# Altium schematic symbol library SiLabs Microcontroller 8-Bit 8051.SchLib: 120 symbols (part 5 of 9)
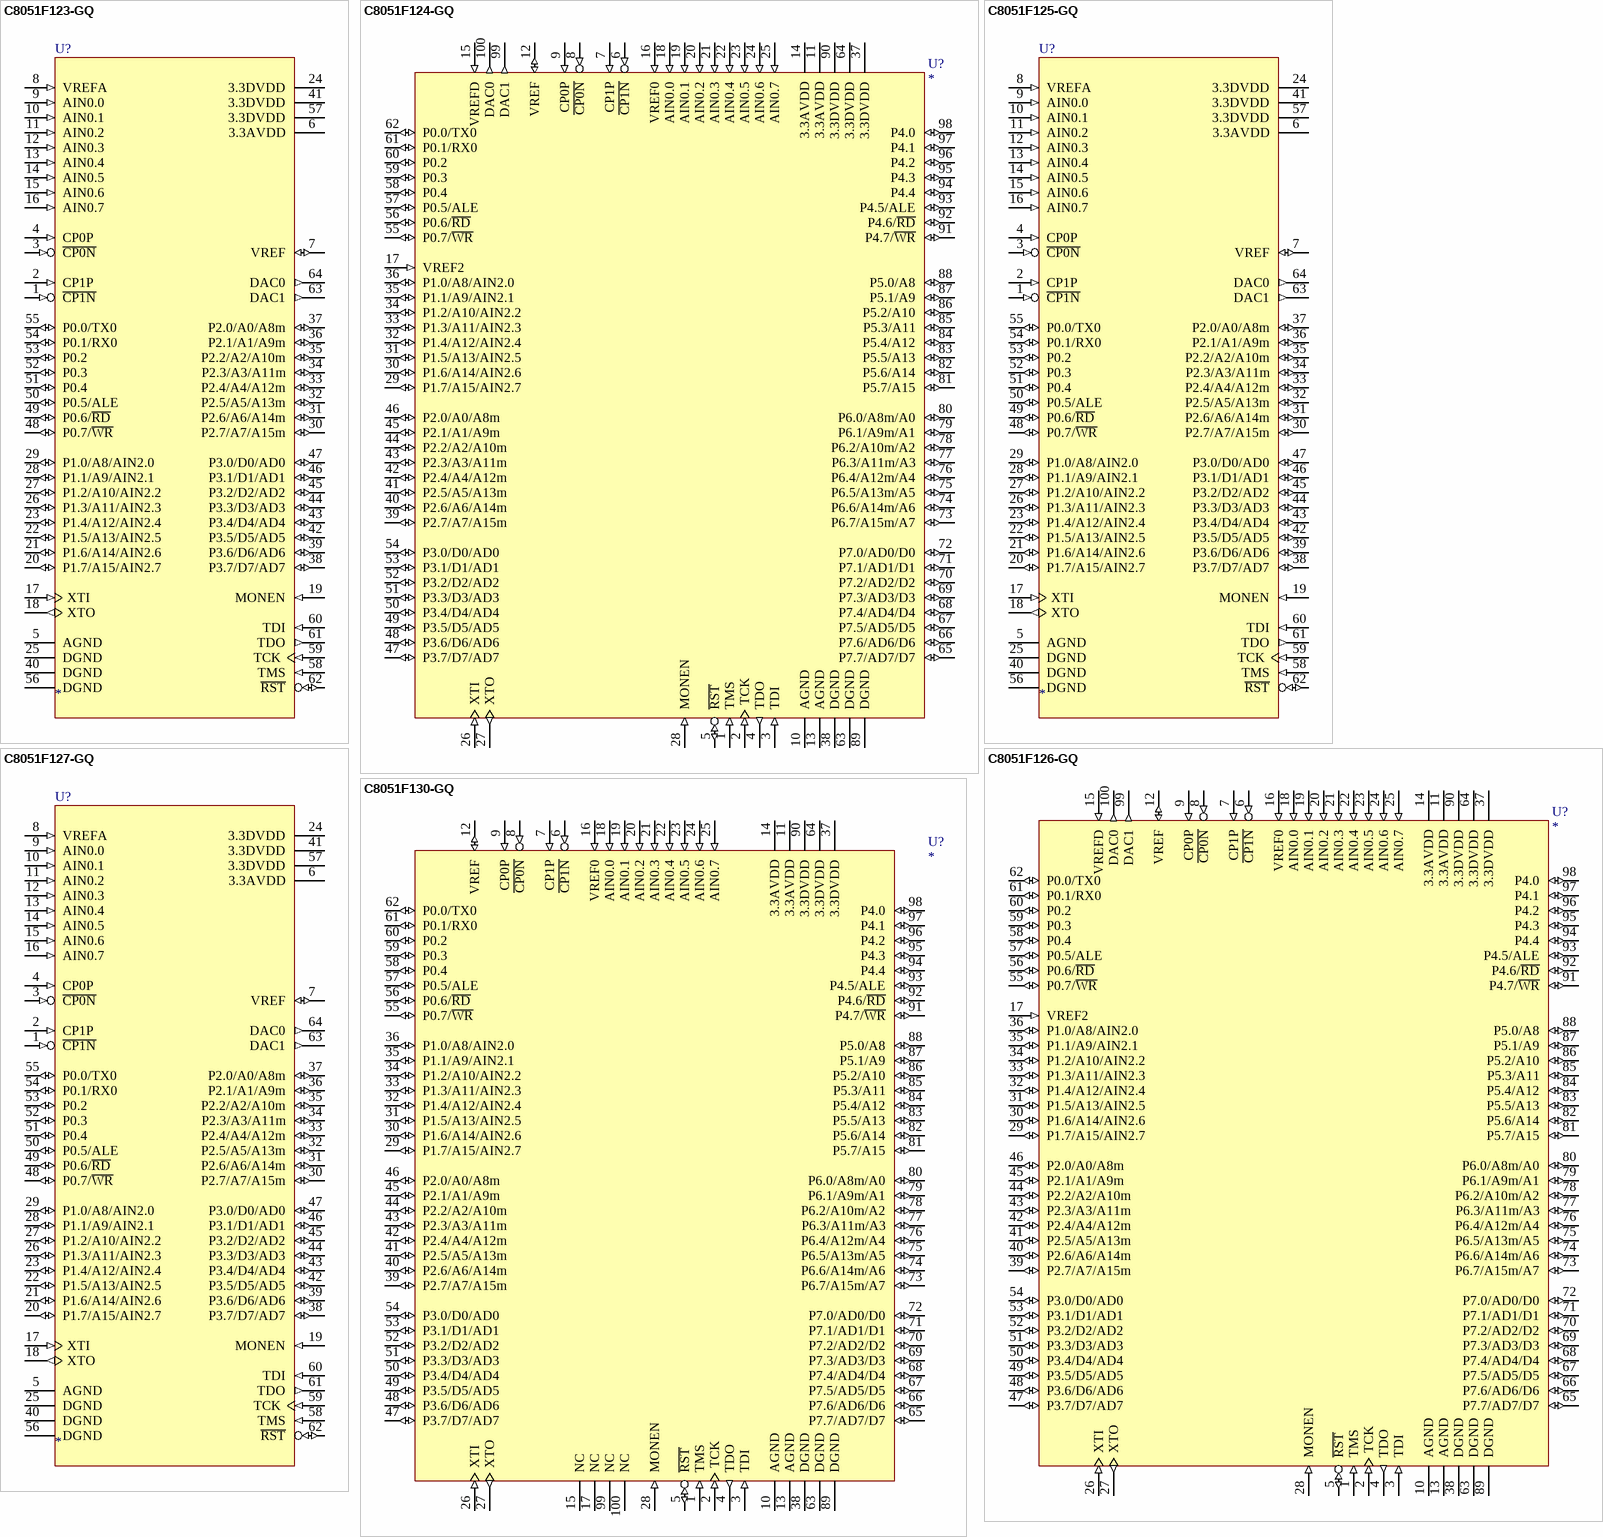
[diagram p18: symbols C8051F123-GQ to C8051F130-GQ]

## C8051F124-GQ
designator U?
8051 Microcontroller, 50MIPS, 128KiB Flash, 256Byte RAM + 8KiB XRAM, 64KiB EMIF, Internal Oscillator, 5-16bit Timer, 8CH 100ksps 12bit ADC, 8CH 500ksps 8bit ADC, 2CH 12bit DAC, 2 UART, I2C, SPI, PCA, 2 Comparator, 64GPIO.; Manufacture: Silicon Laboratories; Compliant: RoHS; CompliantInformationSource: Silicon Laboratries; PackageDocument: 2005-12; TempertureRange: Industrial (-40 to +85Cel); ComponentLink1Description: Manufacture Link; ComponentLink1URL: http://www.silabs.com/; ComponentLink2Description: Datasheet; ComponentLink2URL: https://www.silabs.com/Support Documents/TechnicalDocs/C8051F12x-13x.pdf; DatasheetDocument: Rev. 1.4, 2005-12; PackageReference: TQFP-100; Published: 2006-02-21; Publisher: A and A System Co., Ltd.; DigiKeyPartNumber: 336-1228-ND
footprint TQFP-100/e0.5 (TQFP-100; Body Width 16mm; Pitch 0.5mm)
pins: 1 TMS (in) "JTAG Test Mode Select with internal pullup.", 2 TCK (in) "JTAG Test Clock with internal pullup.", 3 TDI (in) "JTAG Test Data Input with internal pullup.TDI is latched on the rising edge of TCK.", 4 TDO (out) "JTAG Test Data Output with internal pullup. Data is shifted out on TDO on the falling edge of TCK.  TDO output is a tri-state driver.", 5 ~{RST} (io) "Device Reset. Open-drain output of internal VDD monitor. Is driven low when VDD is < VRST and  MONEN is high. An external source can initiate  a system reset by driving this pin low.", 6 ~{CP1N} (in) "Comparator 1 Inverting Input.", 7 CP1P (in) "Comparator 1 Non-Inverting Input.", 8 ~{CP0N} (in) "Comparator 0 Inverting Input.", 9 CP0P (in) "Comparator 0 Non-Inverting Input.", 10 AGND (power) "Analog Ground. Must be tied to Ground.", 11 3.3AVDD (power) "Analog Supply Voltage. Must be tied to +2.7 to +3.6 V.", 12 VREF (io) "Bandgap Voltage Reference Output (all devices). DAC Voltage Reference Input (C8051F121/3/5/7 only).", 13 AGND (power) "Analog Ground. Must be tied to Ground.", 14 3.3AVDD (power) "Analog Supply Voltage. Must be tied to +2.7 to +3.6 V.", 15 VREFD (in) "DAC Voltage Reference Input.", 16 VREF0 (in) "ADC0 Voltage Reference Input.", 17 VREF2 (in) "ADC2 Voltage Reference Input.", 18 AIN0.0 (in) "ADC0 Input Channel 0 (See ADC0 Specification for complete description).", 19 AIN0.1 (in) "ADC0 Input Channel 1 (See ADC0 Specification for complete description).", 20 AIN0.2 (in) "ADC0 Input Channel 2 (See ADC0 Specification for complete description).", 21 AIN0.3 (in) "ADC0 Input Channel 3 (See ADC0 Specification for complete description).", 22 AIN0.4 (in) "ADC0 Input Channel 4 (See ADC0 Specification for complete description).", 23 AIN0.5 (in) "ADC0 Input Channel 5 (See ADC0 Specification for complete description).", 24 AIN0.6 (in) "ADC0 Input Channel 6 (See ADC0 Specification for complete description).", 25 AIN0.7 (in) "ADC0 Input Channel 7 (See ADC0 Specification for complete description).", 26 XTI (in) "Crystal Input. This pin is the return for the internal oscillator circuit for a crystal or ceramic resonator. For a precision internal clock, connect a crystal or ceramic resonator from XTAL1 to XTAL2. If overdriven by an external CMOS clock, this become", 27 XTO (out) "Crystal Output. This pin is the excitation driver for a crystal or ceramic resonator.", 28 MONEN (in) "VDD Monitor Enable. When tied high, this pin enables the internal VDD monitor, which forces a system reset when VDD is < VRST. When tied low, the internal VDD monitor is disabled. This pin must be tied high or low.", 29 P1.7/A15/AIN2.7 (io) "Port 1.7. See Port Input/Output section for complete description.", 30 P1.6/A14/AIN2.6 (io) "Port 1.6. See Port Input/Output section for complete description.", 31 P1.5/A13/AIN2.5 (io) "Port 1.5. See Port Input/Output section for complete  !description.", 32 P1.4/A12/AIN2.4 (io) "Port 1.4. See Port Input/Output section for complete description.", 33 P1.3/A11/AIN2.3 (io) "Port 1.3. See Port Input/Output section for complete description.", 34 P1.2/A10/AIN2.2 (io) "Port 1.2. See Port Input/Output section for complete description.", 35 P1.1/A9/AIN2.1 (io) "Port 1.1. See Port Input/Output section for complete description.", 36 P1.0/A8/AIN2.0 (io) "ADC2 Input Channel 0 (See ADC2 Specification for complete description). Bit 8 External Memory Address bus (Non-multiplexed  mode)  Port 1.0 See Port Input/Output section for complete description.", 37 3.3DVDD (power) "Digital Supply Voltage. Must be tied to +2.7 to +3.6 V.", 38 DGND (power) "Digital Ground. Must be tied to Ground.", 39 P2.7/A7/A15m (io) "Port 2.7. See Port Input/Output section for complete description.", 40 P2.6/A6/A14m (io) "Port 2.6. See Port Input/Output section for complete description.", 41 P2.5/A5/A13m (io) "Port 2.5. See Port Input/Output section for complete description.", 42 P2.4/A4/A12m (io) "Port 2.4. See Port Input/Output section for complete description.", 43 P2.3/A3/A11m (io) "Port 2.3. See Port Input/Output section for complete description.", 44 P2.2/A2/A10m (io) "Port 2.2. See Port Input/Output section for complete description.", 45 P2.1/A1/A9m (io) "Port 2.1. See Port Input/Output section for complete description.", 46 P2.0/A0/A8m (io) "Port 2.0. Bit 8 External Memory Address bus (Multiplexed mode) Bit 0 External Memory Address bus (Non-multiplexed mode) See Port Input/Output section for complete description.", 47 P3.7/D7/AD7 (io) "Port 3.7. See Port Input/Output section for complete description.", 48 P3.6/D6/AD6 (io) "OPort 3.6. See Port Input/Output section for complete description.", 49 P3.5/D5/AD5 (io) "Port 3.5. See Port Input/Output section for complete description.", 50 P3.4/D4/AD4 (io) "OPort 3.4. See Port Input/Output section for complete description.", 51 P3.3/D3/AD3 (io) "OPort 3.3. See Port Input/Output section for complete description.", 52 P3.2/D2/AD2 (io) "OPort 3.2. See Port Input/Output section for complete description.", 53 P3.1/D1/AD1 (io) "OPort 3.1. See Port Input/Output section for complete description.", 54 P3.0/D0/AD0 (io) "Port 3.0. Bit 0 External Memory Address/Data bus (Multiplexed  mode)  Bit 0 External Memory Data bus (Non-multiplexed  mode) See Port Input/Output section for complete description.", 55 P0.7/~{WR} (io) "Port 0.7. WR Strobe for External Memory Address bus. See Port Input/Output section for complete description.", 56 P0.6/~{RD} (io) "Port 0.6. RD Strobe for External Memory Address bus. See Port Input/Output section for complete description.", 57 P0.5/ALE (io) "Port 0.5. ALE Strobe for External Memory Address bus (multiplexed mode) See Port Input/Output section for complete description.", 58 P0.4 (io) "Port 0.4. See Port Input/Output section for complete description.", 59 P0.3 (io) "Port 0.3. See Port Input/Output section for complete description.", 60 P0.2 (io) "Port 0.2. See Port Input/Output section for complete description.", 61 P0.1/RX0 (io) "Port 0.1. See Port Input/Output section for complete description.", 62 P0.0/TX0 (io) "Port 0.0. See Port Input/Output section for complete description.", 63 DGND (power) "Digital Ground. Must be tied to Ground.", 64 3.3DVDD (power) "Digital Supply Voltage. Must be tied to +2.7 to +3.6 V.", 65 P7.7/AD7/D7 (io) "Port 7.7. See Port Input/Output section for complete description.", 66 P7.6/AD6/D6 (io) "Port 7.6. See Port Input/Output section for complete description.", 67 P7.5/AD5/D5 (io) "Port 7.5. See Port Input/Output section for complete description.", 68 P7.4/AD4/D4 (io) "Port 7.4. See Port Input/Output section for complete description.", 69 P7.3/AD3/D3 (io) "Port 7.3. See Port Input/Output section for complete description.", 70 P7.2/AD2/D2 (io) "Port 7.2. See Port Input/Output section for complete description.", 71 P7.1/AD1/D1 (io) "Port 7.1. See Port Input/Output section for complete description.", 72 P7.0/AD0/D0 (io) "Port 7.0. Bit 0 External Memory Address/Data bus (Multiplexed mode) Bit 0 External Memory Data bus (Non-multiplexed mode) See Port Input/Output section for complete description.", 73 P6.7/A15m/A7 (io) "Port 6.7. See Port Input/Output section for complete description.", 74 P6.6/A14m/A6 (io) "Port 6.6. See Port Input/Output section for complete description.", 75 P6.5/A13m/A5 (io) "Port 6.5. See Port Input/Output section for complete description.", 76 P6.4/A12m/A4 (io) "Port 6.4. See Port Input/Output section for complete description.", 77 P6.3/A11m/A3 (io) "Port 6.3. See Port Input/Output section for complete description.", 78 P6.2/A10m/A2 (io) "Port 6.2. See Port Input/Output section for complete description.", 79 P6.1/A9m/A1 (io) "Port 6.1. See Port Input/Output section for complete description.", 80 P6.0/A8m/A0 (io) "Port6.0. Bit 8 External Memory Address bus (Multiplexed mode) Bit 0 External Memory Address bus (Non-multiplexed mode) See Port Input/Output section for complete description.", 81 P5.7/A15 (io) "Port 5.7. See Port Input/Output section for complete description.", 82 P5.6/A14 (io) "Port 5.6. See Port Input/Output section for complete description.", 83 P5.5/A13 (io) "Port 5.5. See Port Input/Output section for complete description.", 84 P5.4/A12 (io) "Port 5.4. See Port Input/Output section for complete description.", 85 P5.3/A11 (io) "Port 5.3. See Port Input/Output section for complete description.", 86 P5.2/A10 (io) "Port 5.2. See Port Input/Output section for complete description.", 87 P5.1/A9 (io) "Port 5.1. See Port Input/Output section for complete description.", 88 P5.0/A8 (io) "Port 5.0. Bit 8 External Memory Address bus (Non-multiplexed mode) See Port Input/Output section for complete description.", 89 DGND (power) "Digital Ground. Must be tied to Ground.", 90 3.3DVDD (power) "Digital Supply Voltage. Must be tied to +2.7 to +3.6 V.", 91 P4.7/~{WR} (io) "Port 4.7. WR Strobe for External Memory Address bus. See Port Input/Output section for complete description.", 92 P4.6/~{RD} (io) "P4.6. RD Strobe for External Memory Address bus. See Port Input/Output section for complete description.", 93 P4.5/ALE (io) "Port 4.5, ALE Strobe for External Memory Address bus (multiplexed mode) See Port Input/Output section for complete description.", 94 P4.4 (io) "Port 4.4. See Port Input/Output section for complete description.", 95 P4.3 (io) "Port 4.3. See Port Input/Output section for complete description.", 96 P4.2 (io) "Port 4.2. See Port Input/Output section for complete description.", 97 P4.1 (io) "Port 4.1. See Port Input/Output section for complete description.", 98 P4.0 (io) "Port 4.0. See Port Input/Output section for complete description.", 99 DAC1 (out) "Digital to Analog Converter 1 Voltage Output. (See DAC Specification for complete description).", 100 DAC0 (out) "Digital to Analog Converter 0 Voltage Output. (See DAC Specification for complete description)."

## C8051F125-GQ
designator U?
8051 Microcontroller, 50MIPS, 128KiB Flash, 256Byte RAM + 8KiB XRAM, 64KiB EMIF, Internal Oscillator, 5-16bit Timer, 8CH 100ksps 12bit ADC, 8CH 500ksps 8bit ADC, 2CH 12bit DAC, 2 UART, I2C, SPI, PCA, 2 Comparator, 32GPIO.; Manufacture: Silicon Laboratories; Compliant: RoHS; CompliantInformationSource: Silicon Laboratries; PackageDocument: 2005-12; TempertureRange: Industrial (-40 to +85Cel); ComponentLink1Description: Manufacture Link; ComponentLink1URL: http://www.silabs.com/; ComponentLink2Description: Datasheet; ComponentLink2URL: https://www.silabs.com/Support Documents/TechnicalDocs/C8051F12x-13x.pdf; DatasheetDocument: Rev. 1.4, 2005-12; PackageReference: TQFP-64; Published: 2006-02-21; Publisher: A and A System Co., Ltd.; DigiKeyPartNumber: 336-1229-ND
footprint TQFP-64/e0.5 (TQFP-64; Body Width 12mm; Pitch 0.5mm)
pins: 1 ~{CP1N} (in) "Comparator 1 Inverting Input.", 2 CP1P (in) "Comparator 1 Non-Inverting Input.", 3 ~{CP0N} (in) "Comparator 0 Inverting Input.", 4 CP0P (in) "Comparator 0 Non-Inverting Input.", 5 AGND (power) "Analog Ground. Must be tied to Ground.", 6 3.3AVDD (power) "Analog Supply Voltage. Must be tied to +2.7 to +3.6 V.", 7 VREF (io) "Bandgap Voltage Reference Output (all devices). DAC Voltage Reference Input (C8051F121/3/5/7 only).", 8 VREFA (in) "ADC0 and ADC2 Voltage Reference Input.", 9 AIN0.0 (in) "ADC0 Input Channel 0 (See ADC0 Specification for complete description).", 10 AIN0.1 (in) "ADC0 Input Channel 1 (See ADC0 Specification for complete description).", 11 AIN0.2 (in) "ADC0 Input Channel 2 (See ADC0 Specification for complete description).", 12 AIN0.3 (in) "ADC0 Input Channel 3 (See ADC0 Specification for complete description).", 13 AIN0.4 (in) "ADC0 Input Channel 4 (See ADC0 Specification for complete description).", 14 AIN0.5 (in) "ADC0 Input Channel 5 (See ADC0 Specification for complete description).", 15 AIN0.6 (in) "ADC0 Input Channel 6 (See ADC0 Specification for complete description).", 16 AIN0.7 (in) "ADC0 Input Channel 7 (See ADC0 Specification for complete description).", 17 XTI (in) "Crystal Input. This pin is the return for the internal oscillator circuit for a crystal or ceramic resonator. For a precision internal clock, connect a crystal or ceramic resonator from XTAL1 to XTAL2. If overdriven by an external CMOS clock, this become", 18 XTO (out) "Crystal Output. This pin is the excitation driver for a crystal or ceramic resonator.", 19 MONEN (in) "VDD Monitor Enable. When tied high, this pin enables the internal VDD monitor, which forces a system reset when VDD is < VRST. When tied low, the internal VDD monitor is disabled. This pin must be tied high or low.", 20 P1.7/A15/AIN2.7 (io) "Port 1.7. See Port Input/Output section for complete description.", 21 P1.6/A14/AIN2.6 (io) "Port 1.6. See Port Input/Output section for complete description.", 22 P1.5/A13/AIN2.5 (io) "Port 1.5. See Port Input/Output section for complete  !description.", 23 P1.4/A12/AIN2.4 (io) "Port 1.4. See Port Input/Output section for complete description.", 24 3.3DVDD (power) "Digital Supply Voltage. Must be tied to +2.7 to +3.6 V.", 25 DGND (power) "Digital Ground. Must be tied to Ground.", 26 P1.3/A11/AIN2.3 (io) "Port 1.3. See Port Input/Output section for complete description.", 27 P1.2/A10/AIN2.2 (io) "Port 1.2. See Port Input/Output section for complete description.", 28 P1.1/A9/AIN2.1 (io) "Port 1.1. See Port Input/Output section for complete description.", 29 P1.0/A8/AIN2.0 (io) "ADC2 Input Channel 0 (See ADC2 Specification for complete description). Bit 8 External Memory Address bus (Non-multiplexed  mode)  Port 1.0 See Port Input/Output section for complete description.", 30 P2.7/A7/A15m (io) "Port 2.7. See Port Input/Output section for complete description.", 31 P2.6/A6/A14m (io) "Port 2.6. See Port Input/Output section for complete description.", 32 P2.5/A5/A13m (io) "Port 2.5. See Port Input/Output section for complete description.", 33 P2.4/A4/A12m (io) "Port 2.4. See Port Input/Output section for complete description.", 34 P2.3/A3/A11m (io) "Port 2.3. See Port Input/Output section for complete description.", 35 P2.2/A2/A10m (io) "Port 2.2. See Port Input/Output section for complete description.", 36 P2.1/A1/A9m (io) "Port 2.1. See Port Input/Output section for complete description.", 37 P2.0/A0/A8m (io) "Port 2.0. Bit 8 External Memory Address bus (Multiplexed mode) Bit 0 External Memory Address bus (Non-multiplexed mode) See Port Input/Output section for complete description.", 38 P3.7/D7/AD7 (io) "Port 3.7. See Port Input/Output section for complete description.", 39 P3.6/D6/AD6 (io) "OPort 3.6. See Port Input/Output section for complete description.", 40 DGND (power) "Digital Ground. Must be tied to Ground.", 41 3.3DVDD (power) "Digital Supply Voltage. Must be tied to +2.7 to +3.6 V.", 42 P3.5/D5/AD5 (io) "Port 3.5. See Port Input/Output section for complete description.", 43 P3.4/D4/AD4 (io) "OPort 3.4. See Port Input/Output section for complete description.", 44 P3.3/D3/AD3 (io) "OPort 3.3. See Port Input/Output section for complete description.", 45 P3.2/D2/AD2 (io) "OPort 3.2. See Port Input/Output section for complete description.", 46 P3.1/D1/AD1 (io) "OPort 3.1. See Port Input/Output section for complete description.", 47 P3.0/D0/AD0 (io) "Port 3.0. Bit 0 External Memory Address/Data bus (Multiplexed  mode)  Bit 0 External Memory Data bus (Non-multiplexed  mode) See Port Input/Output section for complete description.", 48 P0.7/~{WR} (io) "Port 0.7, WR Strobe for External Memory Address bus. See Port Input/Output section for complete description.", 49 P0.6/~{RD} (io) "Port 0.6, RD Strobe for External Memory Address bus. See Port Input/Output section for complete description.", 50 P0.5/ALE (io) "Port 0.5. ALE Strobe for External Memory Address bus (multiplexed mode) See Port Input/Output section for complete description.", 51 P0.4 (io) "Port 0.4. See Port Input/Output section for complete description.", 52 P0.3 (io) "Port 0.3. See Port Input/Output section for complete description.", 53 P0.2 (io) "Port 0.2. See Port Input/Output section for complete description.", 54 P0.1/RX0 (io) "Port 0.1. See Port Input/Output section for complete description.", 55 P0.0/TX0 (io) "Port 0.0. See Port Input/Output section for complete description.", 56 DGND (power) "Digital Ground. Must be tied to Ground.", 57 3.3DVDD (power) "Digital Supply Voltage. Must be tied to +2.7 to +3.6 V.", 58 TMS (in) "JTAG Test Mode Select with internal pullup.", 59 TCK (in) "JTAG Test Clock with internal pullup.", 60 TDI (in) "JTAG Test Data Input with internal pullup.TDI is latched on the rising edge of TCK.", 61 TDO (out) "JTAG Test Data Output with internal pullup. Data is shifted out on TDO on the falling edge of TCK.  TDO output is a tri-state driver.", 62 ~{RST} (io) "Device Reset. Open-drain output of internal VDD monitor. Is driven low when VDD is < VRST and  MONEN is high. An external source can initiate  a system reset by driving this pin low.", 63 DAC1 (out) "Digital to Analog Converter 1 Voltage Output. (See DAC Specification for complete description).", 64 DAC0 (out) "Digital to Analog Converter 0 Voltage Output. (See DAC Specification for complete description)."

## C8051F126-GQ
designator U?
8051 Microcontroller, 50MIPS, 128KiB Flash, 256Byte RAM + 8KiB XRAM, 64KiB EMIF, Internal Oscillator, 5-16bit Timer, 8CH 100ksps 10bit ADC, 8CH 500ksps 8bit ADC, 2CH 12bit DAC, 2 UART, I2C, SPI, PCA, 2 Comparator, 64GPIO.; Manufacture: Silicon Laboratories; Compliant: RoHS; CompliantInformationSource: Silicon Laboratries; PackageDocument: 2005-12; TempertureRange: Industrial (-40 to +85Cel); ComponentLink1Description: Manufacture Link; ComponentLink1URL: http://www.silabs.com/; ComponentLink2Description: Datasheet; ComponentLink2URL: https://www.silabs.com/Support Documents/TechnicalDocs/C8051F12x-13x.pdf; DatasheetDocument: Rev. 1.4, 2005-12; PackageReference: TQFP-100; Published: 2006-02-21; Publisher: A and A System Co., Ltd.; DigiKeyPartNumber: 336-1230-ND
footprint TQFP-100/e0.5 (TQFP-100; Body Width 16mm; Pitch 0.5mm)
pins: 1 TMS (in) "JTAG Test Mode Select with internal pullup.", 2 TCK (in) "JTAG Test Clock with internal pullup.", 3 TDI (in) "JTAG Test Data Input with internal pullup.TDI is latched on the rising edge of TCK.", 4 TDO (out) "JTAG Test Data Output with internal pullup. Data is shifted out on TDO on the falling edge of TCK.  TDO output is a tri-state driver.", 5 ~{RST} (io) "Device Reset. Open-drain output of internal VDD monitor. Is driven low when VDD is < VRST and  MONEN is high. An external source can initiate  a system reset by driving this pin low.", 6 ~{CP1N} (in) "Comparator 1 Inverting Input.", 7 CP1P (in) "Comparator 1 Non-Inverting Input.", 8 ~{CP0N} (in) "Comparator 0 Inverting Input.", 9 CP0P (in) "Comparator 0 Non-Inverting Input.", 10 AGND (power) "Analog Ground. Must be tied to Ground.", 11 3.3AVDD (power) "Analog Supply Voltage. Must be tied to +2.7 to +3.6 V.", 12 VREF (io) "Bandgap Voltage Reference Output (all devices). DAC Voltage Reference Input (C8051F121/3/5/7 only).", 13 AGND (power) "Analog Ground. Must be tied to Ground.", 14 3.3AVDD (power) "Analog Supply Voltage. Must be tied to +2.7 to +3.6 V.", 15 VREFD (in) "DAC Voltage Reference Input.", 16 VREF0 (in) "ADC0 Voltage Reference Input.", 17 VREF2 (in) "ADC2 Voltage Reference Input.", 18 AIN0.0 (in) "ADC0 Input Channel 0 (See ADC0 Specification for complete description).", 19 AIN0.1 (in) "ADC0 Input Channel 1 (See ADC0 Specification for complete description).", 20 AIN0.2 (in) "ADC0 Input Channel 2 (See ADC0 Specification for complete description).", 21 AIN0.3 (in) "ADC0 Input Channel 3 (See ADC0 Specification for complete description).", 22 AIN0.4 (in) "ADC0 Input Channel 4 (See ADC0 Specification for complete description).", 23 AIN0.5 (in) "ADC0 Input Channel 5 (See ADC0 Specification for complete description).", 24 AIN0.6 (in) "ADC0 Input Channel 6 (See ADC0 Specification for complete description).", 25 AIN0.7 (in) "ADC0 Input Channel 7 (See ADC0 Specification for complete description).", 26 XTI (in) "Crystal Input. This pin is the return for the internal oscillator circuit for a crystal or ceramic resonator. For a precision internal clock, connect a crystal or ceramic resonator from XTAL1 to XTAL2. If overdriven by an external CMOS clock, this become", 27 XTO (out) "Crystal Output. This pin is the excitation driver for a crystal or ceramic resonator.", 28 MONEN (in) "VDD Monitor Enable. When tied high, this pin enables the internal VDD monitor, which forces a system reset when VDD is < VRST. When tied low, the internal VDD monitor is disabled. This pin must be tied high or low.", 29 P1.7/A15/AIN2.7 (io) "Port 1.7. See Port Input/Output section for complete description.", 30 P1.6/A14/AIN2.6 (io) "Port 1.6. See Port Input/Output section for complete description.", 31 P1.5/A13/AIN2.5 (io) "Port 1.5. See Port Input/Output section for complete  !description.", 32 P1.4/A12/AIN2.4 (io) "Port 1.4. See Port Input/Output section for complete description.", 33 P1.3/A11/AIN2.3 (io) "Port 1.3. See Port Input/Output section for complete description.", 34 P1.2/A10/AIN2.2 (io) "Port 1.2. See Port Input/Output section for complete description.", 35 P1.1/A9/AIN2.1 (io) "Port 1.1. See Port Input/Output section for complete description.", 36 P1.0/A8/AIN2.0 (io) "ADC2 Input Channel 0 (See ADC2 Specification for complete description). Bit 8 External Memory Address bus (Non-multiplexed  mode)  Port 1.0 See Port Input/Output section for complete description.", 37 3.3DVDD (power) "Digital Supply Voltage. Must be tied to +2.7 to +3.6 V.", 38 DGND (power) "Digital Ground. Must be tied to Ground.", 39 P2.7/A7/A15m (io) "Port 2.7. See Port Input/Output section for complete description.", 40 P2.6/A6/A14m (io) "Port 2.6. See Port Input/Output section for complete description.", 41 P2.5/A5/A13m (io) "Port 2.5. See Port Input/Output section for complete description.", 42 P2.4/A4/A12m (io) "Port 2.4. See Port Input/Output section for complete description.", 43 P2.3/A3/A11m (io) "Port 2.3. See Port Input/Output section for complete description.", 44 P2.2/A2/A10m (io) "Port 2.2. See Port Input/Output section for complete description.", 45 P2.1/A1/A9m (io) "Port 2.1. See Port Input/Output section for complete description.", 46 P2.0/A0/A8m (io) "Port 2.0. Bit 8 External Memory Address bus (Multiplexed mode) Bit 0 External Memory Address bus (Non-multiplexed mode) See Port Input/Output section for complete description.", 47 P3.7/D7/AD7 (io) "Port 3.7. See Port Input/Output section for complete description.", 48 P3.6/D6/AD6 (io) "OPort 3.6. See Port Input/Output section for complete description.", 49 P3.5/D5/AD5 (io) "Port 3.5. See Port Input/Output section for complete description.", 50 P3.4/D4/AD4 (io) "OPort 3.4. See Port Input/Output section for complete description.", 51 P3.3/D3/AD3 (io) "OPort 3.3. See Port Input/Output section for complete description.", 52 P3.2/D2/AD2 (io) "OPort 3.2. See Port Input/Output section for complete description.", 53 P3.1/D1/AD1 (io) "OPort 3.1. See Port Input/Output section for complete description.", 54 P3.0/D0/AD0 (io) "Port 3.0. Bit 0 External Memory Address/Data bus (Multiplexed  mode)  Bit 0 External Memory Data bus (Non-multiplexed  mode) See Port Input/Output section for complete description.", 55 P0.7/~{WR} (io) "Port 0.7. WR Strobe for External Memory Address bus. See Port Input/Output section for complete description.", 56 P0.6/~{RD} (io) "Port 0.6. RD Strobe for External Memory Address bus. See Port Input/Output section for complete description.", 57 P0.5/ALE (io) "Port 0.5. ALE Strobe for External Memory Address bus (multiplexed mode) See Port Input/Output section for complete description.", 58 P0.4 (io) "Port 0.4. See Port Input/Output section for complete description.", 59 P0.3 (io) "Port 0.3. See Port Input/Output section for complete description.", 60 P0.2 (io) "Port 0.2. See Port Input/Output section for complete description.", 61 P0.1/RX0 (io) "Port 0.1. See Port Input/Output section for complete description.", 62 P0.0/TX0 (io) "Port 0.0. See Port Input/Output section for complete description.", 63 DGND (power) "Digital Ground. Must be tied to Ground.", 64 3.3DVDD (power) "Digital Supply Voltage. Must be tied to +2.7 to +3.6 V.", 65 P7.7/AD7/D7 (io) "Port 7.7. See Port Input/Output section for complete description.", 66 P7.6/AD6/D6 (io) "Port 7.6. See Port Input/Output section for complete description.", 67 P7.5/AD5/D5 (io) "Port 7.5. See Port Input/Output section for complete description.", 68 P7.4/AD4/D4 (io) "Port 7.4. See Port Input/Output section for complete description.", 69 P7.3/AD3/D3 (io) "Port 7.3. See Port Input/Output section for complete description.", 70 P7.2/AD2/D2 (io) "Port 7.2. See Port Input/Output section for complete description.", 71 P7.1/AD1/D1 (io) "Port 7.1. See Port Input/Output section for complete description.", 72 P7.0/AD0/D0 (io) "Port 7.0. Bit 0 External Memory Address/Data bus (Multiplexed mode) Bit 0 External Memory Data bus (Non-multiplexed mode) See Port Input/Output section for complete description.", 73 P6.7/A15m/A7 (io) "Port 6.7. See Port Input/Output section for complete description.", 74 P6.6/A14m/A6 (io) "Port 6.6. See Port Input/Output section for complete description.", 75 P6.5/A13m/A5 (io) "Port 6.5. See Port Input/Output section for complete description.", 76 P6.4/A12m/A4 (io) "Port 6.4. See Port Input/Output section for complete description.", 77 P6.3/A11m/A3 (io) "Port 6.3. See Port Input/Output section for complete description.", 78 P6.2/A10m/A2 (io) "Port 6.2. See Port Input/Output section for complete description.", 79 P6.1/A9m/A1 (io) "Port 6.1. See Port Input/Output section for complete description.", 80 P6.0/A8m/A0 (io) "Port6.0. Bit 8 External Memory Address bus (Multiplexed mode) Bit 0 External Memory Address bus (Non-multiplexed mode) See Port Input/Output section for complete description.", 81 P5.7/A15 (io) "Port 5.7. See Port Input/Output section for complete description.", 82 P5.6/A14 (io) "Port 5.6. See Port Input/Output section for complete description.", 83 P5.5/A13 (io) "Port 5.5. See Port Input/Output section for complete description.", 84 P5.4/A12 (io) "Port 5.4. See Port Input/Output section for complete description.", 85 P5.3/A11 (io) "Port 5.3. See Port Input/Output section for complete description.", 86 P5.2/A10 (io) "Port 5.2. See Port Input/Output section for complete description.", 87 P5.1/A9 (io) "Port 5.1. See Port Input/Output section for complete description.", 88 P5.0/A8 (io) "Port 5.0. Bit 8 External Memory Address bus (Non-multiplexed mode) See Port Input/Output section for complete description.", 89 DGND (power) "Digital Ground. Must be tied to Ground.", 90 3.3DVDD (power) "Digital Supply Voltage. Must be tied to +2.7 to +3.6 V.", 91 P4.7/~{WR} (io) "Port 4.7. WR Strobe for External Memory Address bus. See Port Input/Output section for complete description.", 92 P4.6/~{RD} (io) "P4.6. RD Strobe for External Memory Address bus. See Port Input/Output section for complete description.", 93 P4.5/ALE (io) "Port 4.5, ALE Strobe for External Memory Address bus (multiplexed mode) See Port Input/Output section for complete description.", 94 P4.4 (io) "Port 4.4. See Port Input/Output section for complete description.", 95 P4.3 (io) "Port 4.3. See Port Input/Output section for complete description.", 96 P4.2 (io) "Port 4.2. See Port Input/Output section for complete description.", 97 P4.1 (io) "Port 4.1. See Port Input/Output section for complete description.", 98 P4.0 (io) "Port 4.0. See Port Input/Output section for complete description.", 99 DAC1 (out) "Digital to Analog Converter 1 Voltage Output. (See DAC Specification for complete description).", 100 DAC0 (out) "Digital to Analog Converter 0 Voltage Output. (See DAC Specification for complete description)."

## C8051F127-GQ
designator U?
8051 Microcontroller, 50MIPS, 128KiB Flash, 256Byte RAM + 8KiB XRAM, 64KiB EMIF, Internal Oscillator, 5-16bit Timer, 8CH 100ksps 10bit ADC, 8CH 500ksps 8bit ADC, 2CH 12bit DAC, 2 UART, I2C, SPI, PCA, 2 Comparator, 32GPIO.; Manufacture: Silicon Laboratories; Compliant: RoHS; CompliantInformationSource: Silicon Laboratries; PackageDocument: 2005-12; TempertureRange: Industrial (-40 to +85Cel); ComponentLink1Description: Manufacture Link; ComponentLink1URL: http://www.silabs.com/; ComponentLink2Description: Datasheet; ComponentLink2URL: https://www.silabs.com/Support Documents/TechnicalDocs/C8051F12x-13x.pdf; DatasheetDocument: Rev. 1.4, 2005-12; PackageReference: TQFP-64; Published: 2006-02-21; Publisher: A and A System Co., Ltd.; DigiKeyPartNumber: 336-1231-ND
footprint TQFP-64/e0.5 (TQFP-64; Body Width 12mm; Pitch 0.5mm)
pins: 1 ~{CP1N} (in) "Comparator 1 Inverting Input.", 2 CP1P (in) "Comparator 1 Non-Inverting Input.", 3 ~{CP0N} (in) "Comparator 0 Inverting Input.", 4 CP0P (in) "Comparator 0 Non-Inverting Input.", 5 AGND (power) "Analog Ground. Must be tied to Ground.", 6 3.3AVDD (power) "Analog Supply Voltage. Must be tied to +2.7 to +3.6 V.", 7 VREF (io) "Bandgap Voltage Reference Output (all devices). DAC Voltage Reference Input (C8051F121/3/5/7 only).", 8 VREFA (in) "ADC0 and ADC2 Voltage Reference Input.", 9 AIN0.0 (in) "ADC0 Input Channel 0 (See ADC0 Specification for complete description).", 10 AIN0.1 (in) "ADC0 Input Channel 1 (See ADC0 Specification for complete description).", 11 AIN0.2 (in) "ADC0 Input Channel 2 (See ADC0 Specification for complete description).", 12 AIN0.3 (in) "ADC0 Input Channel 3 (See ADC0 Specification for complete description).", 13 AIN0.4 (in) "ADC0 Input Channel 4 (See ADC0 Specification for complete description).", 14 AIN0.5 (in) "ADC0 Input Channel 5 (See ADC0 Specification for complete description).", 15 AIN0.6 (in) "ADC0 Input Channel 6 (See ADC0 Specification for complete description).", 16 AIN0.7 (in) "ADC0 Input Channel 7 (See ADC0 Specification for complete description).", 17 XTI (in) "Crystal Input. This pin is the return for the internal oscillator circuit for a crystal or ceramic resonator. For a precision internal clock, connect a crystal or ceramic resonator from XTAL1 to XTAL2. If overdriven by an external CMOS clock, this become", 18 XTO (out) "Crystal Output. This pin is the excitation driver for a crystal or ceramic resonator.", 19 MONEN (in) "VDD Monitor Enable. When tied high, this pin enables the internal VDD monitor, which forces a system reset when VDD is < VRST. When tied low, the internal VDD monitor is disabled. This pin must be tied high or low.", 20 P1.7/A15/AIN2.7 (io) "Port 1.7. See Port Input/Output section for complete description.", 21 P1.6/A14/AIN2.6 (io) "Port 1.6. See Port Input/Output section for complete description.", 22 P1.5/A13/AIN2.5 (io) "Port 1.5. See Port Input/Output section for complete  !description.", 23 P1.4/A12/AIN2.4 (io) "Port 1.4. See Port Input/Output section for complete description.", 24 3.3DVDD (power) "Digital Supply Voltage. Must be tied to +2.7 to +3.6 V.", 25 DGND (power) "Digital Ground. Must be tied to Ground.", 26 P1.3/A11/AIN2.3 (io) "Port 1.3. See Port Input/Output section for complete description.", 27 P1.2/A10/AIN2.2 (io) "Port 1.2. See Port Input/Output section for complete description.", 28 P1.1/A9/AIN2.1 (io) "Port 1.1. See Port Input/Output section for complete description.", 29 P1.0/A8/AIN2.0 (io) "ADC2 Input Channel 0 (See ADC2 Specification for complete description). Bit 8 External Memory Address bus (Non-multiplexed  mode)  Port 1.0 See Port Input/Output section for complete description.", 30 P2.7/A7/A15m (io) "Port 2.7. See Port Input/Output section for complete description.", 31 P2.6/A6/A14m (io) "Port 2.6. See Port Input/Output section for complete description.", 32 P2.5/A5/A13m (io) "Port 2.5. See Port Input/Output section for complete description.", 33 P2.4/A4/A12m (io) "Port 2.4. See Port Input/Output section for complete description.", 34 P2.3/A3/A11m (io) "Port 2.3. See Port Input/Output section for complete description.", 35 P2.2/A2/A10m (io) "Port 2.2. See Port Input/Output section for complete description.", 36 P2.1/A1/A9m (io) "Port 2.1. See Port Input/Output section for complete description.", 37 P2.0/A0/A8m (io) "Port 2.0. Bit 8 External Memory Address bus (Multiplexed mode) Bit 0 External Memory Address bus (Non-multiplexed mode) See Port Input/Output section for complete description.", 38 P3.7/D7/AD7 (io) "Port 3.7. See Port Input/Output section for complete description.", 39 P3.6/D6/AD6 (io) "OPort 3.6. See Port Input/Output section for complete description.", 40 DGND (power) "Digital Ground. Must be tied to Ground.", 41 3.3DVDD (power) "Digital Supply Voltage. Must be tied to +2.7 to +3.6 V.", 42 P3.5/D5/AD5 (io) "Port 3.5. See Port Input/Output section for complete description.", 43 P3.4/D4/AD4 (io) "OPort 3.4. See Port Input/Output section for complete description.", 44 P3.3/D3/AD3 (io) "OPort 3.3. See Port Input/Output section for complete description.", 45 P3.2/D2/AD2 (io) "OPort 3.2. See Port Input/Output section for complete description.", 46 P3.1/D1/AD1 (io) "OPort 3.1. See Port Input/Output section for complete description.", 47 P3.0/D0/AD0 (io) "Port 3.0. Bit 0 External Memory Address/Data bus (Multiplexed  mode)  Bit 0 External Memory Data bus (Non-multiplexed  mode) See Port Input/Output section for complete description.", 48 P0.7/~{WR} (io) "Port 0.7, WR Strobe for External Memory Address bus. See Port Input/Output section for complete description.", 49 P0.6/~{RD} (io) "Port 0.6, RD Strobe for External Memory Address bus. See Port Input/Output section for complete description.", 50 P0.5/ALE (io) "Port 0.5. ALE Strobe for External Memory Address bus (multiplexed mode) See Port Input/Output section for complete description.", 51 P0.4 (io) "Port 0.4. See Port Input/Output section for complete description.", 52 P0.3 (io) "Port 0.3. See Port Input/Output section for complete description.", 53 P0.2 (io) "Port 0.2. See Port Input/Output section for complete description.", 54 P0.1/RX0 (io) "Port 0.1. See Port Input/Output section for complete description.", 55 P0.0/TX0 (io) "Port 0.0. See Port Input/Output section for complete description.", 56 DGND (power) "Digital Ground. Must be tied to Ground.", 57 3.3DVDD (power) "Digital Supply Voltage. Must be tied to +2.7 to +3.6 V.", 58 TMS (in) "JTAG Test Mode Select with internal pullup.", 59 TCK (in) "JTAG Test Clock with internal pullup.", 60 TDI (in) "JTAG Test Data Input with internal pullup.TDI is latched on the rising edge of TCK.", 61 TDO (out) "JTAG Test Data Output with internal pullup. Data is shifted out on TDO on the falling edge of TCK.  TDO output is a tri-state driver.", 62 ~{RST} (io) "Device Reset. Open-drain output of internal VDD monitor. Is driven low when VDD is < VRST and  MONEN is high. An external source can initiate  a system reset by driving this pin low.", 63 DAC1 (out) "Digital to Analog Converter 1 Voltage Output. (See DAC Specification for complete description).", 64 DAC0 (out) "Digital to Analog Converter 0 Voltage Output. (See DAC Specification for complete description)."

## C8051F130-GQ
designator U?
8051 Microcontroller, 100MIPS, 16x16MAC, 128KiB Flash, 256Byte RAM + 8KiB XRAM, 64KiB EMIF, Internal Oscillator, 5-16bit Timer, 8CH 100ksps 10bit ADC, 2 UART, I2C, SPI, PCA, 2 Comparator, 64GPIO.; Manufacture: Silicon Laboratories; Compliant: RoHS; CompliantInformationSource: Silicon Laboratries; PackageDocument: 2005-12; TempertureRange: Industrial (-40 to +85Cel); ComponentLink1Description: Manufacture Link; ComponentLink1URL: http://www.silabs.com/; ComponentLink2Description: Datasheet; ComponentLink2URL: https://www.silabs.com/Support Documents/TechnicalDocs/C8051F12x-13x.pdf; DatasheetDocument: Rev. 1.4, 2005-12; PackageReference: TQFP-100; Published: 2006-02-21; Publisher: A and A System Co., Ltd.; DigiKeyPartNumber: 336-1232-ND
footprint TQFP-100/e0.5 (TQFP-100; Body Width 16mm; Pitch 0.5mm)
pins: 1 TMS (in) "JTAG Test Mode Select with internal pullup.", 2 TCK (in) "JTAG Test Clock with internal pullup.", 3 TDI (in) "JTAG Test Data Input with internal pullup.TDI is latched on the rising edge of TCK.", 4 TDO (out) "JTAG Test Data Output with internal pullup. Data is shifted out on TDO on the falling edge of TCK.  TDO output is a tri-state driver.", 5 ~{RST} (io) "Device Reset. Open-drain output of internal VDD monitor. Is driven low when VDD is < VRST and  MONEN is high. An external source can initiate  a system reset by driving this pin low.", 6 ~{CP1N} (in) "Comparator 1 Inverting Input.", 7 CP1P (in) "Comparator 1 Non-Inverting Input.", 8 ~{CP0N} (in) "Comparator 0 Inverting Input.", 9 CP0P (in) "Comparator 0 Non-Inverting Input.", 10 AGND (power) "Analog Ground. Must be tied to Ground.", 11 3.3AVDD (power) "Analog Supply Voltage. Must be tied to +2.7 to +3.6 V.", 12 VREF (io) "Bandgap Voltage Reference Output (all devices). DAC Voltage Reference Input (C8051F121/3/5/7 only).", 13 AGND (power) "Analog Ground. Must be tied to Ground.", 14 3.3AVDD (power) "Analog Supply Voltage. Must be tied to +2.7 to +3.6 V.", 15 NC, 16 VREF0 (in) "ADC0 Voltage Reference Input.", 17 NC, 18 AIN0.0 (in) "ADC0 Input Channel 0 (See ADC0 Specification for complete description).", 19 AIN0.1 (in) "ADC0 Input Channel 1 (See ADC0 Specification for complete description).", 20 AIN0.2 (in) "ADC0 Input Channel 2 (See ADC0 Specification for complete description).", 21 AIN0.3 (in) "ADC0 Input Channel 3 (See ADC0 Specification for complete description).", 22 AIN0.4 (in) "ADC0 Input Channel 4 (See ADC0 Specification for complete description).", 23 AIN0.5 (in) "ADC0 Input Channel 5 (See ADC0 Specification for complete description).", 24 AIN0.6 (in) "ADC0 Input Channel 6 (See ADC0 Specification for complete description).", 25 AIN0.7 (in) "ADC0 Input Channel 7 (See ADC0 Specification for complete description).", 26 XTI (in) "Crystal Input. This pin is the return for the internal oscillator circuit for a crystal or ceramic resonator. For a precision internal clock, connect a crystal or ceramic resonator from XTAL1 to XTAL2. If overdriven by an external CMOS clock, this become", 27 XTO (out) "Crystal Output. This pin is the excitation driver for a crystal or ceramic resonator.", 28 MONEN (in) "VDD Monitor Enable. When tied high, this pin enables the internal VDD monitor, which forces a system reset when VDD is < VRST. When tied low, the internal VDD monitor is disabled. This pin must be tied high or low.", 29 P1.7/A15/AIN2.7 (io) "Port 1.7. See Port Input/Output section for complete description.", 30 P1.6/A14/AIN2.6 (io) "Port 1.6. See Port Input/Output section for complete description.", 31 P1.5/A13/AIN2.5 (io) "Port 1.5. See Port Input/Output section for complete  !description.", 32 P1.4/A12/AIN2.4 (io) "Port 1.4. See Port Input/Output section for complete description.", 33 P1.3/A11/AIN2.3 (io) "Port 1.3. See Port Input/Output section for complete description.", 34 P1.2/A10/AIN2.2 (io) "Port 1.2. See Port Input/Output section for complete description.", 35 P1.1/A9/AIN2.1 (io) "Port 1.1. See Port Input/Output section for complete description.", 36 P1.0/A8/AIN2.0 (io) "ADC2 Input Channel 0 (See ADC2 Specification for complete description). Bit 8 External Memory Address bus (Non-multiplexed  mode)  Port 1.0 See Port Input/Output section for complete description.", 37 3.3DVDD (power) "Digital Supply Voltage. Must be tied to +2.7 to +3.6 V.", 38 DGND (power) "Digital Ground. Must be tied to Ground.", 39 P2.7/A7/A15m (io) "Port 2.7. See Port Input/Output section for complete description.", 40 P2.6/A6/A14m (io) "Port 2.6. See Port Input/Output section for complete description.", 41 P2.5/A5/A13m (io) "Port 2.5. See Port Input/Output section for complete description.", 42 P2.4/A4/A12m (io) "Port 2.4. See Port Input/Output section for complete description.", 43 P2.3/A3/A11m (io) "Port 2.3. See Port Input/Output section for complete description.", 44 P2.2/A2/A10m (io) "Port 2.2. See Port Input/Output section for complete description.", 45 P2.1/A1/A9m (io) "Port 2.1. See Port Input/Output section for complete description.", 46 P2.0/A0/A8m (io) "Port 2.0. Bit 8 External Memory Address bus (Multiplexed mode) Bit 0 External Memory Address bus (Non-multiplexed mode) See Port Input/Output section for complete description.", 47 P3.7/D7/AD7 (io) "Port 3.7. See Port Input/Output section for complete description.", 48 P3.6/D6/AD6 (io) "OPort 3.6. See Port Input/Output section for complete description.", 49 P3.5/D5/AD5 (io) "Port 3.5. See Port Input/Output section for complete description.", 50 P3.4/D4/AD4 (io) "OPort 3.4. See Port Input/Output section for complete description.", 51 P3.3/D3/AD3 (io) "OPort 3.3. See Port Input/Output section for complete description.", 52 P3.2/D2/AD2 (io) "OPort 3.2. See Port Input/Output section for complete description.", 53 P3.1/D1/AD1 (io) "OPort 3.1. See Port Input/Output section for complete description.", 54 P3.0/D0/AD0 (io) "Port 3.0. Bit 0 External Memory Address/Data bus (Multiplexed  mode)  Bit 0 External Memory Data bus (Non-multiplexed  mode) See Port Input/Output section for complete description.", 55 P0.7/~{WR} (io) "Port 0.7. WR Strobe for External Memory Address bus. See Port Input/Output section for complete description.", 56 P0.6/~{RD} (io) "Port 0.6. RD Strobe for External Memory Address bus. See Port Input/Output section for complete description.", 57 P0.5/ALE (io) "Port 0.5. ALE Strobe for External Memory Address bus (multiplexed mode) See Port Input/Output section for complete description.", 58 P0.4 (io) "Port 0.4. See Port Input/Output section for complete description.", 59 P0.3 (io) "Port 0.3. See Port Input/Output section for complete description.", 60 P0.2 (io) "Port 0.2. See Port Input/Output section for complete description.", 61 P0.1/RX0 (io) "Port 0.1. See Port Input/Output section for complete description.", 62 P0.0/TX0 (io) "Port 0.0. See Port Input/Output section for complete description.", 63 DGND (power) "Digital Ground. Must be tied to Ground.", 64 3.3DVDD (power) "Digital Supply Voltage. Must be tied to +2.7 to +3.6 V.", 65 P7.7/AD7/D7 (io) "Port 7.7. See Port Input/Output section for complete description.", 66 P7.6/AD6/D6 (io) "Port 7.6. See Port Input/Output section for complete description.", 67 P7.5/AD5/D5 (io) "Port 7.5. See Port Input/Output section for complete description.", 68 P7.4/AD4/D4 (io) "Port 7.4. See Port Input/Output section for complete description.", 69 P7.3/AD3/D3 (io) "Port 7.3. See Port Input/Output section for complete description.", 70 P7.2/AD2/D2 (io) "Port 7.2. See Port Input/Output section for complete description.", 71 P7.1/AD1/D1 (io) "Port 7.1. See Port Input/Output section for complete description.", 72 P7.0/AD0/D0 (io) "Port 7.0. Bit 0 External Memory Address/Data bus (Multiplexed mode) Bit 0 External Memory Data bus (Non-multiplexed mode) See Port Input/Output section for complete description.", 73 P6.7/A15m/A7 (io) "Port 6.7. See Port Input/Output section for complete description.", 74 P6.6/A14m/A6 (io) "Port 6.6. See Port Input/Output section for complete description.", 75 P6.5/A13m/A5 (io) "Port 6.5. See Port Input/Output section for complete description.", 76 P6.4/A12m/A4 (io) "Port 6.4. See Port Input/Output section for complete description.", 77 P6.3/A11m/A3 (io) "Port 6.3. See Port Input/Output section for complete description.", 78 P6.2/A10m/A2 (io) "Port 6.2. See Port Input/Output section for complete description.", 79 P6.1/A9m/A1 (io) "Port 6.1. See Port Input/Output section for complete description.", 80 P6.0/A8m/A0 (io) "Port6.0. Bit 8 External Memory Address bus (Multiplexed mode) Bit 0 External Memory Address bus (Non-multiplexed mode) See Port Input/Output section for complete description.", 81 P5.7/A15 (io) "Port 5.7. See Port Input/Output section for complete description.", 82 P5.6/A14 (io) "Port 5.6. See Port Input/Output section for complete description.", 83 P5.5/A13 (io) "Port 5.5. See Port Input/Output section for complete description.", 84 P5.4/A12 (io) "Port 5.4. See Port Input/Output section for complete description.", 85 P5.3/A11 (io) "Port 5.3. See Port Input/Output section for complete description.", 86 P5.2/A10 (io) "Port 5.2. See Port Input/Output section for complete description.", 87 P5.1/A9 (io) "Port 5.1. See Port Input/Output section for complete description.", 88 P5.0/A8 (io) "Port 5.0. Bit 8 External Memory Address bus (Non-multiplexed mode) See Port Input/Output section for complete description.", 89 DGND (power) "Digital Ground. Must be tied to Ground.", 90 3.3DVDD (power) "Digital Supply Voltage. Must be tied to +2.7 to +3.6 V.", 91 P4.7/~{WR} (io) "Port 4.7. WR Strobe for External Memory Address bus. See Port Input/Output section for complete description.", 92 P4.6/~{RD} (io) "P4.6. RD Strobe for External Memory Address bus. See Port Input/Output section for complete description.", 93 P4.5/ALE (io) "Port 4.5, ALE Strobe for External Memory Address bus (multiplexed mode) See Port Input/Output section for complete description.", 94 P4.4 (io) "Port 4.4. See Port Input/Output section for complete description.", 95 P4.3 (io) "Port 4.3. See Port Input/Output section for complete description.", 96 P4.2 (io) "Port 4.2. See Port Input/Output section for complete description.", 97 P4.1 (io) "Port 4.1. See Port Input/Output section for complete description.", 98 P4.0 (io) "Port 4.0. See Port Input/Output section for complete description.", 99 NC, 100 NC

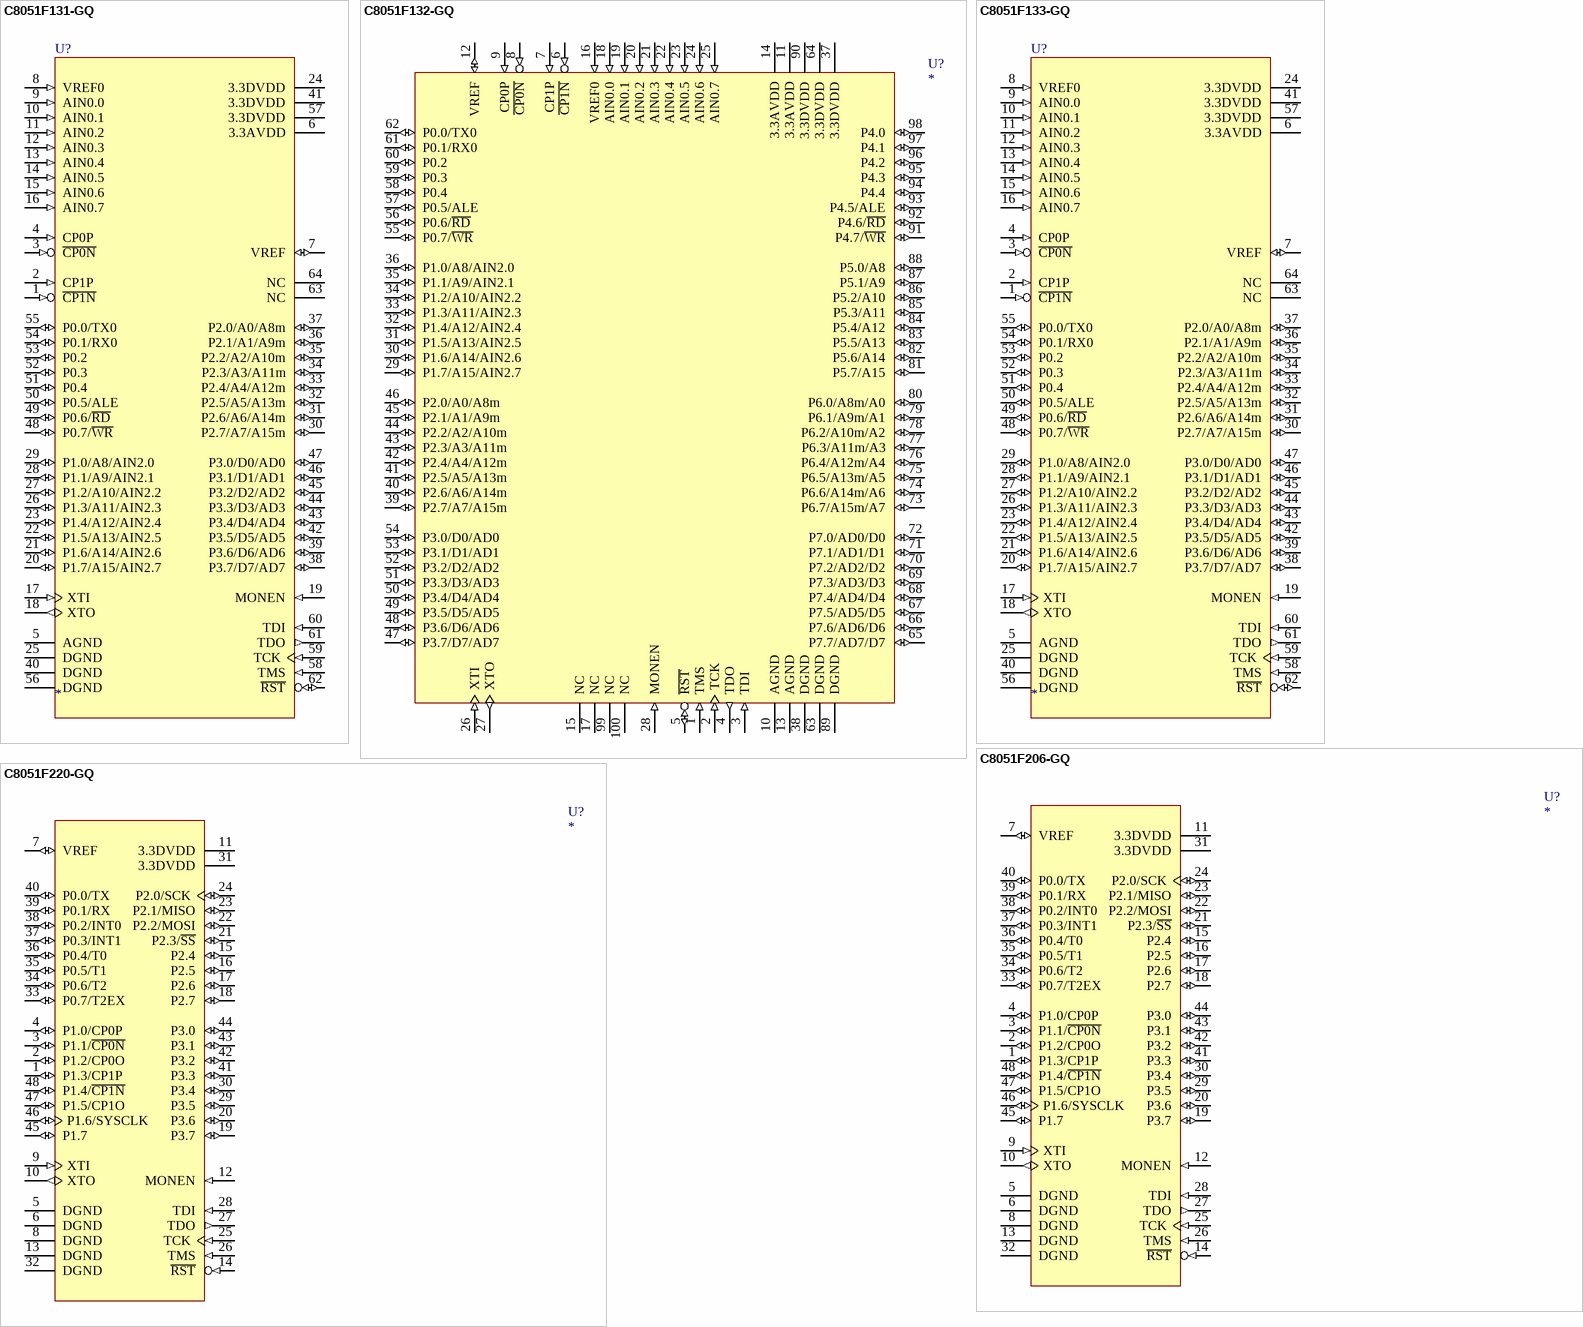
[diagram p9: symbols C8051F131-GQ to C8051F220-GQ]